# EAGLE library part LTC4440ES6-5TR (library LTC4440ES6-5TR)
Check availability <https://pricing.snapeda.com/parts/LTC4440ES6-5%23TR/Analog%20Devices%20/%20Linear%20Technology/view-part?ref=eda>
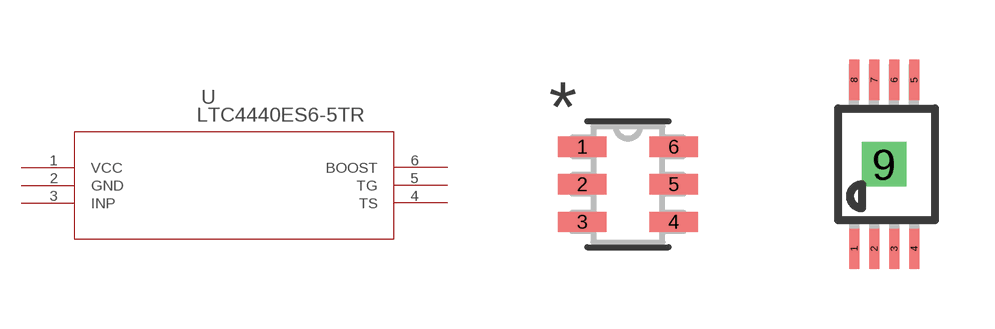
[diagram p0: symbol with the pads of SOT-23_S6; footprints SOT-23_S6, MSOP8P]

Designator prefix U

## LTC4440ES6-5TR (AVAILABILITY: In Stock; DESCRIPTION: Gate Drivers LTC4440-5 - High Speed, High Voltage, High Side Gate Driver; MF: Analog Devices / Linear Technology; MP: LTC4440ES6-5#TR; PACKAGE: None; PRICE: None; PURCHASE-URL: https://pricing.snapeda.com/search/part/LTC4440ES6-5#TR/?ref=eda)  [SOT-23_S6]
1  VCC  pwr
2  GND  pwr
3  INP  in
4  TS  pas
5  TG  out
6  BOOST  pas

## LTC4440ES6-5TRMSOP8P  [MSOP8P]
1  INP  in
2  GND  pwr
3  VCC  pwr
4  GND  pwr
6  BOOST  pas
7  TG  out
8  TS  pas
9  GND  pwr

## Footprint SOT-23_S6 (pad centres in mm)
smd 1.219 x 0.508: 1 -1.143,0.94; 2 -1.143,0; 3 -1.143,-0.94; 4 1.143,-0.94; 5 1.143,0; 6 1.143,0.94

## Footprint MSOP8P (pad centres in mm)
smd 0.25 x 1: 1 -1,-3.383; 2 -0.5,-3.383; 3 0,-3.383; 4 0.5,-3.383; 5 0.5,0.843; 6 0,0.843; 7 -0.5,0.843; 8 -1,0.843
drill 0.6 square: 9 -0.254,-1.27